# EAGLE library part RS232-SMALL (library uORocketry-parts)
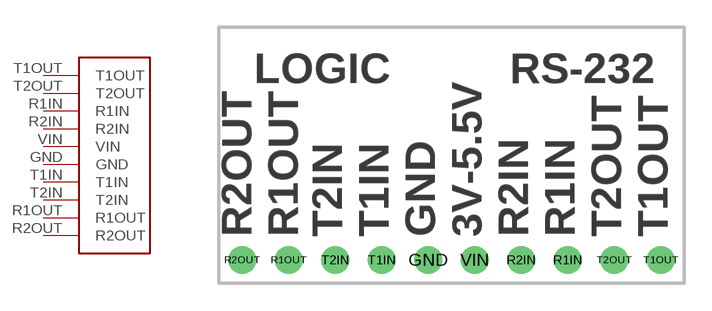
[diagram p5: symbol with the pads of RS232-SMALL; footprint RS232-SMALL]

Designator prefix -

## RS232-SMALL  [RS232-SMALL]
GND  GND
R1IN  R1IN
R1OUT  R1OUT
R2IN  R2IN
R2OUT  R2OUT
T1IN  T1IN
T1OUT  T1OUT
T2IN  T2IN
T2OUT  T2OUT
VIN  VIN

## Footprint RS232-SMALL (pad centres in mm)
drill 1.016: GND 11.43,1.27; R1IN 19.05,1.27; R1OUT 3.81,1.27; R2IN 16.51,1.27; R2OUT 1.27,1.27; T1IN 8.89,1.27; T1OUT 24.13,1.27; T2IN 6.35,1.27; T2OUT 21.59,1.27; VIN 13.97,1.27